# Altium footprint library PCB-BUTTONS -KLS7 TS5401.PcbLib: 1 footprints
Each footprint in its own frame and in the unit in brackets; x right, y up, seen from the top. Pads: shape width x height; smd on the part's side, far side on the other; paste and mask are expansions set on the pad; w line width, h text height; cw(c..) or ccw(c..) is an arc to the next point about the centre after c.
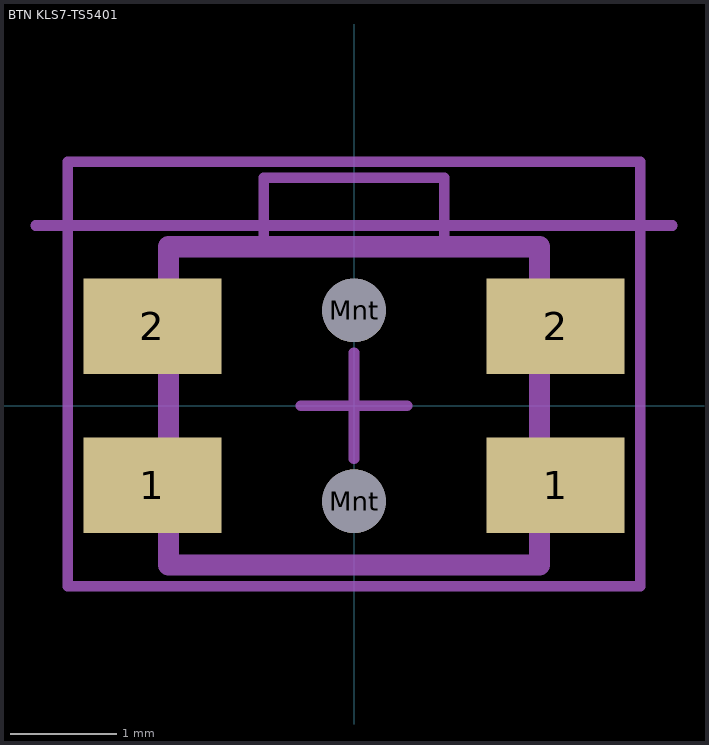
[diagram p0: the footprint, top view; thin cyan lines are the x and y axes]

## BTN KLS7-TS5401 [mm] "Tactile Switch, SMD 3,5x4,65x1,35mm"
height 1.35
pads (6):
  rect 1.3x0.9 smd: 1(-1.9,-0.75) 1(1.9,-0.75) 2(-1.9,0.75) 2(1.9,0.75)
  round 0.6 hole 0.6 unplated: Mnt(0,-0.9) Mnt(0,0.9)
Top Assembly:
  lines w0.1: -0.85,1.5 -0.85,2.15 0.85,2.15 0.85,1.5
  lines w0.2: -1.75,-1.5 -1.75,1.5 1.75,1.5 1.75,-1.5 -1.75,-1.5
Board Shape:
  lines w0.1: -3,1.7 3,1.7
Top Courtyard:
  lines w0.1: -2.7,-1.7 2.7,-1.7 2.7,2.3 -2.7,2.3 -2.7,-1.7
Top Component Center:
  lines w0.1: -0.5,0 0.5,0 ; 0,-0.5 0,0.5
3D body "KLS7-TS5401.x_t": height 1.35, standoff -0.5, extent -2.25,-1.5 2.25,2.15